# Altium footprint library Misc.PcbLib: 14 footprints
Each footprint in its own frame and in the unit in brackets; x right, y up, seen from the top. Pads: shape width x height; smd on the part's side, far side on the other; paste and mask are expansions set on the pad; w line width, h text height; cw(c..) or ccw(c..) is an arc to the next point about the centre after c.
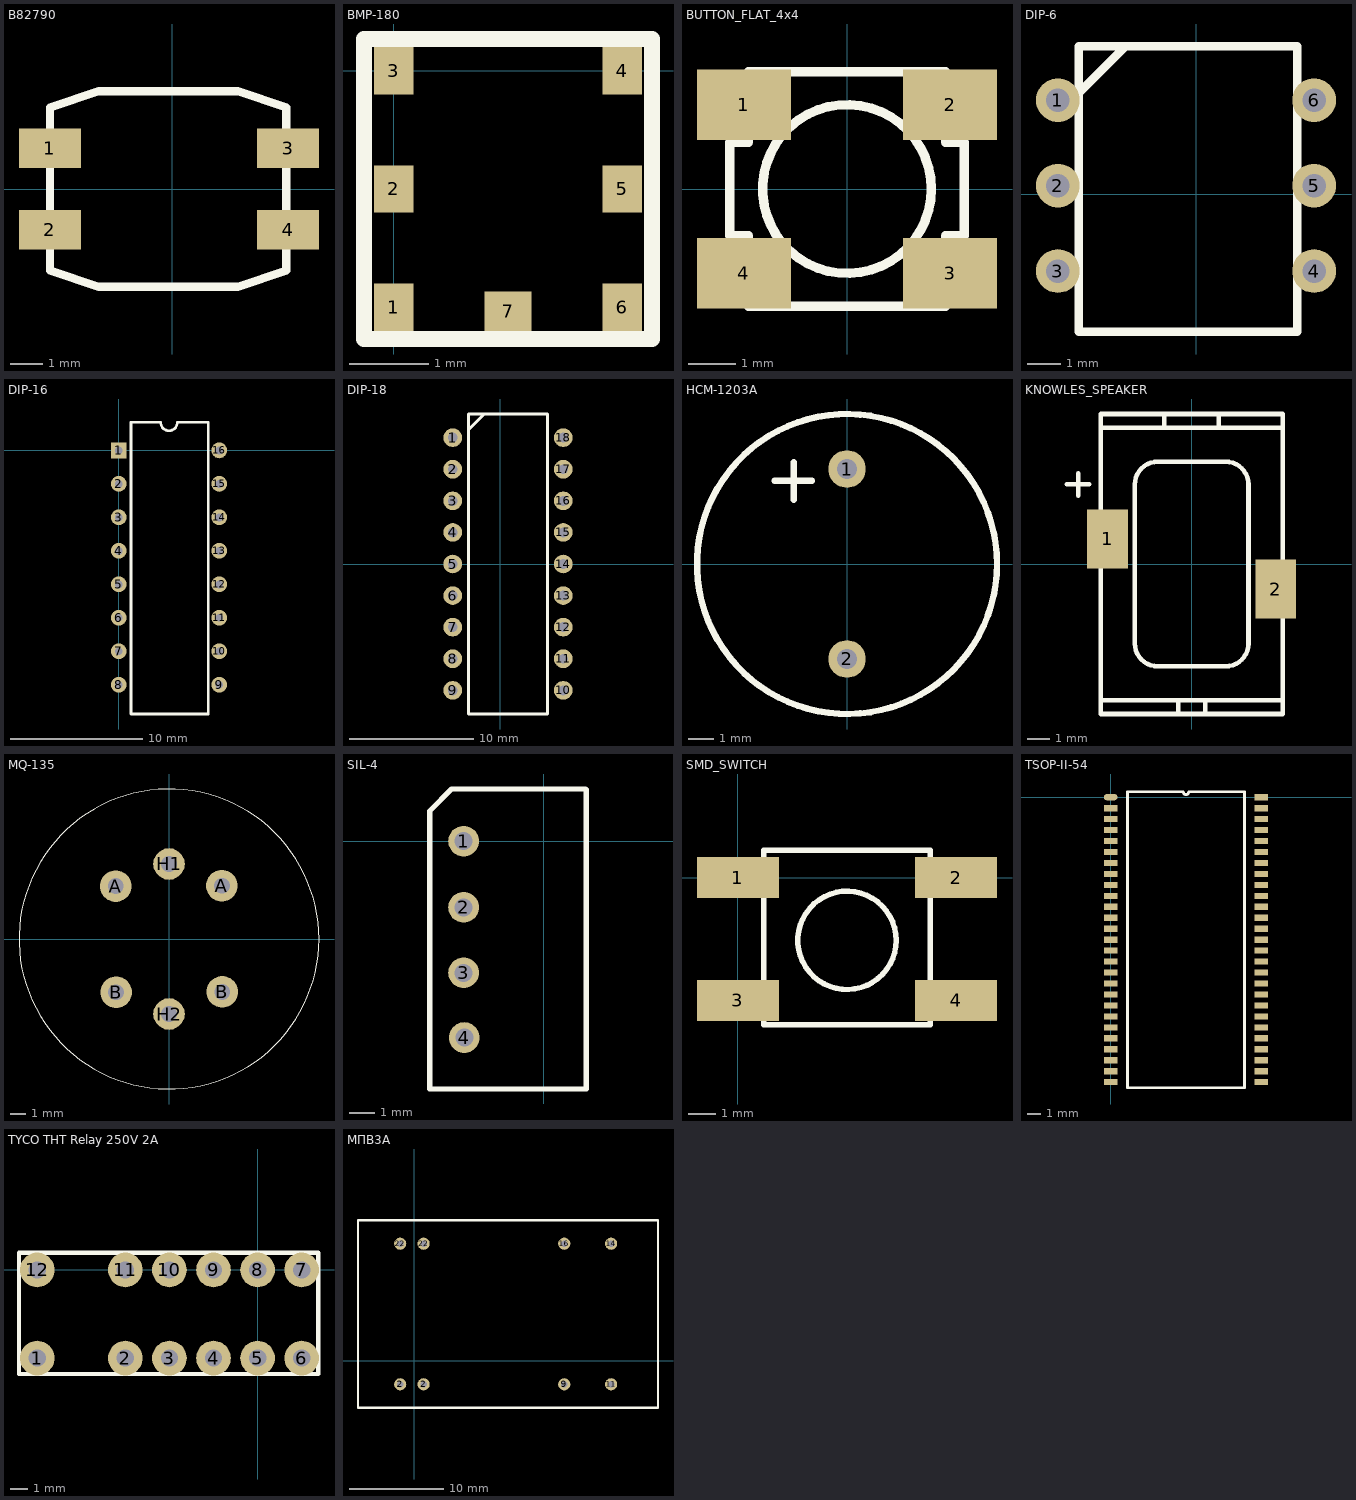
[diagram p0: the footprints below, top view; thin cyan lines are the x and y axes]

## B82790 [mm]
pads (4):
  rect 1.9x1.2 smd: 1(-3.75,1.25) 2(-3.75,-1.25) 3(3.55,1.25) 4(3.55,-1.25)
Top Overlay:
  lines w0.254: -3.75,-2.5 -3.75,2.5 -2.25,3 2,3 3.5,2.5 3.5,-2.5 2,-3 -2.25,-3 -3.75,-2.5
3D body "User Library-B82790.STEP": height 5.21, standoff 0.01, extent -4.582,-3 4.402,3

## BMP-180 [mm]
pads (7):
  rect 0.5x0.6 smd: 1(0,-3) 2(0,-1.5) 3(0,0) 4(2.9,0) 5(2.9,-1.5) 6(2.9,-3)
  rect 0.6x0.5 smd: 7(1.45,-3.05)
Top Overlay:
  lines w0.2: -0.375,-3.4 3.275,-3.4 3.275,0.4 -0.375,0.4 -0.375,-3.4
3D body "User Library-BST-BMP180.STEP": height 0.98, standoff 0, extent -0.35,-3.4 3.25,0.4

## BUTTON_FLAT_4x4 [mm]
pads (4):
  rect 2x1.5 smd: 1(-2.2,1.8) 2(2.2,1.8) 3(2.2,-1.8) 4(-2.2,-1.8)
Top Overlay:
  circle w0.2: c0,0 r1.8
  lines w0.2: -2.5,-1 -2.1,-1 -2.1,-2.5 2.1,-2.5 2.1,-1 2.5,-1 2.5,1 2.1,1 2.1,2.5 -2.1,2.5 -2.1,1 -2.5,1 -2.5,-1

## DIP-6 [mm]
pads (6):
  round 1.3 hole 0.7: 1(-4.12,2.79) 2(-4.12,0.25) 3(-4.12,-2.29) 4(3.5,-2.29) 5(3.5,0.25) 6(3.5,2.79)
Top Overlay:
  lines w0.254: -3.5,3 -2.1,4.4 ; -3.5,-4.1 -3.5,4.4 3,4.4 3,-4.1 -3.5,-4.1
3D body "User Library-DIP6.STEP": height 4.8, standoff -2.5, extent -4.235,-3.35 3.635,3.77

## DIP-16 [mm]
pads (16):
  rect 1.2x1.2 hole 0.6: 1(0,0)
  round 1.2 hole 0.6: 2(0,-2.54) 3(0,-5.08) 4(0,-7.62) 5(0,-10.16) 6(0,-12.7) 7(0,-15.24) 8(0,-17.78) 9(7.62,-17.78) 10(7.62,-15.24) 11(7.62,-12.7) 12(7.62,-10.16) 13(7.62,-7.62) 14(7.62,-5.08) 15(7.62,-2.54) 16(7.62,0)
Top Overlay:
  lines w0.2: 4.445,2.125 cw(c3.81,2.125) 3.175,2.125 0.925,2.125 0.925,-20 6.775,-20 6.775,2.125 4.45,2.125
3D body "User Library-DIP16-22mm.STEP": height 5.15, standoff -2.49, extent -0.125,-19.89 7.745,2.11

## DIP-18 [mm]
pads (18):
  round 1.5 hole 0.8: 1(-3.81,10.16) 2(-3.81,7.62) 3(-3.81,5.08) 4(-3.81,2.54) 5(-3.81,0) 6(-3.81,-2.54) 7(-3.81,-5.08) 8(-3.81,-7.62) 9(-3.81,-10.16) 10(5.08,-10.16) 11(5.08,-7.62) 12(5.08,-5.08) 13(5.08,-2.54) 14(5.08,0) 15(5.08,2.54) 16(5.08,5.08) 17(5.08,7.62) 18(5.08,10.16)
Top Overlay:
  lines w0.254: -2.54,10.795 -1.27,12.065 ; -2.54,-12.065 3.81,-12.065 3.81,12.065 -2.54,12.065 -2.54,-12.065
3D body "User Library-DIP18-1.STEP": height 4.57, standoff -3.81, extent -3.085,-11.67 4.735,11.57

## HCM-1203A [mm] "Buzzer"
pads (2):
  round 1.5 hole 0.8: 1(0,3.8) 2(0,-3.8)
Top Overlay:
  circle w0.254: c0,0 r6
  lines w0.254: -2.9,3.325 -1.4,3.325 ; -2.125,2.575 -2.125,4.075
3D body "User Library-HCM1206X.STEP": height 9.5, standoff -6.5, extent -6,-6 6,6

## KNOWLES_SPEAKER [mm] "2403 260 00031"
pads (2):
  rect 1.8x2.6 smd: 1(-3.7,1.1) 2(3.7,-1.1)
Top Overlay:
  lines w0.2: -5.5,3.5 -4.5,3.5 ; -5,3 -5,4 ; -4,-6 4,-6 ; -4,6 4,6 ; -1.2,6 -1.2,6.6 ; -0.6,-6.6 -0.6,-6 ; 0.6,-6.6 0.6,-6 ; 1.2,6 1.2,6.6 ; -4,-6.6 4,-6.6 4,6.6 -4,6.6 -4,-6.6 ; -2.5,-3.5 ccw(c-1.5,-3.5) -1.5,-4.5 1.5,-4.5 ccw(c1.5,-3.5) 2.5,-3.5 2.5,3.5 ccw(c1.5,3.5) 1.5,4.5 -1.5,4.5 ccw(c-1.5,3.5) -2.5,3.5 -2.5,-3.5
3D body "Knowles 2403-260-00031.STEP": height 2.08, standoff -0.45, extent -4,-6.6 4,6.6

## MQ-135 [mm]
pads (6):
  round 2 hole 1: A(-3.375,3.35) A(3.35,3.375) B(-3.35,-3.375) B(3.375,-3.35) H1(0,4.75) H2(0,-4.75)
Top Overlay:
  circle w0.05: c0,0 r9.5
3D body "User Library-MQ135.step": height 14, standoff -7.5, extent -9.75,-9.75 9.75,9.75

## SIL-4 [mm]
pads (4):
  round 1.2 hole 0.7: 1(-3.125,0) 2(-3.125,-2.575) 3(-3.125,-5.125) 4(-3.1,-7.65)
Top Overlay:
  lines w0.2: -4.445,-9.652 -4.445,1.18 -3.593,2.032 1.628,2.032 1.651,2.009 1.651,-9.652 -4.445,-9.652
3D body "User Library-SIL-K4.STEP": height 10.26, standoff -2.4, extent -4.45,-9.7 1.66,2

## SMD_SWITCH [mm]
pads (4):
  rect 3x1.5 smd: 1(0,0) 2(8,0) 3(0,-4.5) 4(8,-4.5)
Top Overlay:
  circle w0.2: c4,-2.3 r1.803
  lines w0.2: 0.95,-5.4 0.95,1 7.05,1 7.05,-5.4 0.95,-5.4
3D body "User Library-FSM4JSMATR - TE Connectivity - SPST 6mm Tactile Switch.STEP": height 4.97, standoff 0, extent -1,-5.2 9,0.8

## TSOP-II-54 [mm]
pads (54):
  oval 1x0.45 smd: 1(0,0)
  rect 1x0.45 smd: 2(0,-0.8) 3(0,-1.6) 4(0,-2.4) 5(0,-3.2) 6(0,-4) 7(0,-4.8) 8(0,-5.6) 9(0,-6.4) 10(0,-7.2) 11(0,-8) 12(0,-8.8) 13(0,-9.6) 14(0,-10.4) 15(0,-11.2) 16(0,-12) 17(0,-12.8) 18(0,-13.6) 19(0,-14.4) 20(0,-15.2) 21(0,-16) 22(0,-16.8) 23(0,-17.6) 24(0,-18.4) 25(0,-19.2) 26(0,-20) 27(0,-20.8) 28(11,-20.8) 29(11,-20) 30(11,-19.2) 31(11,-18.4) 32(11,-17.6) 33(11,-16.8) 34(11,-16) 35(11,-15.2) 36(11,-14.4) 37(11,-13.6) 38(11,-12.8) 39(11,-12) 40(11,-11.2) 41(11,-10.4) 42(11,-9.6) 43(11,-8.8) 44(11,-8) 45(11,-7.2) 46(11,-6.4) 47(11,-5.6) 48(11,-4.8) 49(11,-4) 50(11,-3.2) 51(11,-2.4) 52(11,-1.6) 53(11,-0.8) 54(11,0)
Top Overlay:
  lines w0.2: 1.235,-21.2 9.765,-21.2 9.765,0.4 5.7,0.4 cw(c5.5,0.4) 5.3,0.4 1.235,0.4 1.235,-21.2
3D body "User Library-TSOP-54-1.step": height 1.25, standoff 0, extent -0.38,-21.51 11.38,0.71

## TYCO THT Relay 250V 2A [mm]
pads (12):
  round 2 hole 1: 1(-12.7,-5.08) 2(-7.62,-5.08) 3(-5.08,-5.08) 4(-2.54,-5.08) 5(0,-5.08) 6(2.54,-5.08) 7(2.54,0) 8(0,0) 9(-2.54,0) 10(-5.08,0) 11(-7.62,0) 12(-12.7,0)
Top Overlay:
  lines w0.254: -13.75,-6 -13.75,1 3.5,1 3.5,-6 -13.75,-6

## МПВ3А [mm]
pads (8):
  round 1.3 hole 0.7: 2(-1.5,-2.5) 2(1,-2.5) 9(16,-2.5) 11(21,-2.5) 14(21,12.5) 16(16,12.5) 22(-1.5,12.5) 22(1,12.5)
Top Overlay:
  lines w0.254: -6,-5 -6,15 26,15 26,-5 -6,-5